# Altium schematic symbol library Sensors Current Shunts.SchLib: 1 symbol
Pins are listed as number, name and electrical type; pins without a type are passive.

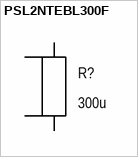
[diagram p0: symbol PSL2NTEBL300F]

## PSL2NTEBL300F
designator R?, comment 300u  (net tie)
SHUNT 300UOHM 2512 (6432); Manufacturer: KOA Speer Electronics; Part name: PSL2NTEBL300F; Group: Sensors; Temperature coefficient: ±175ppm/°C; Tolerance: ±1%; Power: 8.0W; Component: Sensor Current Shunt; Type: Metall element; Package: 2512 (6432); Resistance: 300u; Dimension: 6.30mm x 3.15mm; Height: 1.47mm; Operating temperature: -65°C +175°C; Mounting type: Surface mount
footprint Shunt_metall_6432 (Shunt Resistor, Body 6.30x3.15mm)
pins: 1, 2, 3, 4